# Altium footprint library QFN-16(3.0X3.0).PcbLib: 1 footprints
Each footprint in its own frame and in the unit in brackets; x right, y up, seen from the top. Pads: shape width x height; smd on the part's side, far side on the other; paste and mask are expansions set on the pad; w line width, h text height; cw(c..) or ccw(c..) is an arc to the next point about the centre after c.
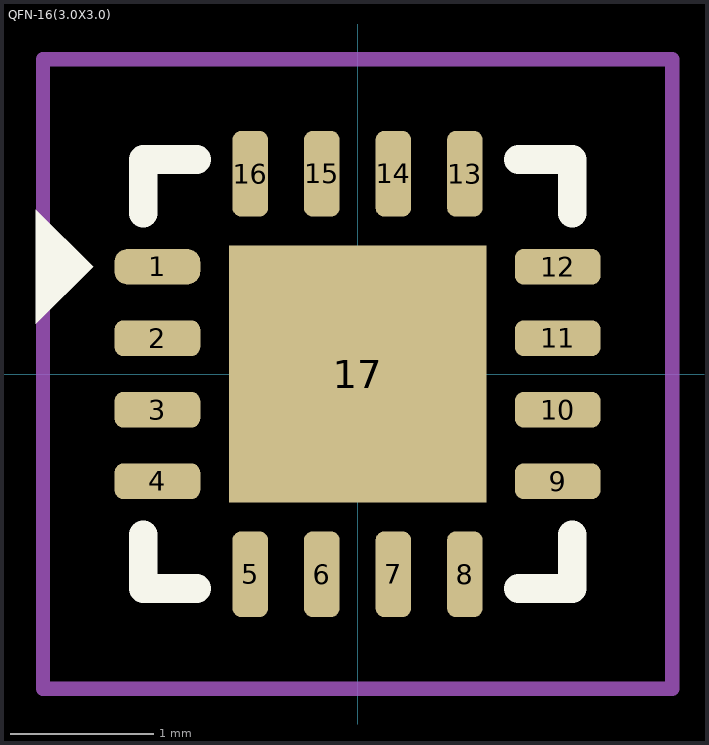
[diagram p0: the footprint, top view; thin cyan lines are the x and y axes]

## QFN-16(3.0X3.0) [mm]
pads (17):
  rrect75% 0.6x0.25 smd: 1(-1.4,0.75)
  rrect50% 0.6x0.25 smd: 2(-1.4,0.25) 3(-1.4,-0.25) 4(-1.4,-0.75) 9(1.4,-0.75) 10(1.4,-0.25) 11(1.4,0.25) 12(1.4,0.75)
  rrect50% 0.25x0.6 smd: 5(-0.75,-1.4) 6(-0.25,-1.4) 7(0.25,-1.4) 8(0.75,-1.4) 13(0.75,1.4) 14(0.25,1.4) 15(-0.25,1.4) 16(-0.75,1.4)
  rect 1.8x1.8 smd paste-2: 17(0,0)
Top Overlay:
  region: -2.25,0.35 -2.25,1.15 -1.85,0.75
  lines w0.2: -1.5,-1.125 -1.5,-1.5 -1.125,-1.5 ; -1.5,1.125 -1.5,1.5 -1.125,1.5 ; 1.125,-1.5 1.5,-1.5 1.5,-1.125 ; 1.125,1.5 1.5,1.5 1.5,1.125
Top Paste:
  region: -0.1,-0.7 -0.7,-0.7 -0.7,-0.1 -0.1,-0.1
  region: 0.7,-0.7 0.1,-0.7 0.1,-0.1 0.7,-0.1
  region: 0.7,0.1 0.1,0.1 0.1,0.7 0.7,0.7
  region: -0.1,0.1 -0.7,0.1 -0.7,0.7 -0.1,0.7
Top Courtyard:
  lines w0.1: -2.2,-2.2 2.2,-2.2 2.2,2.2 -2.2,2.2 -2.2,-2.2
3D body "QFN-16_3MM_GRF.step": height 0.89, standoff 0, extent -1.499,-1.499 1.499,1.499